# Altium schematic symbol library BSPD_library.SchLib: 4 symbols
Pins are listed as number, name and electrical type; pins without a type are passive.

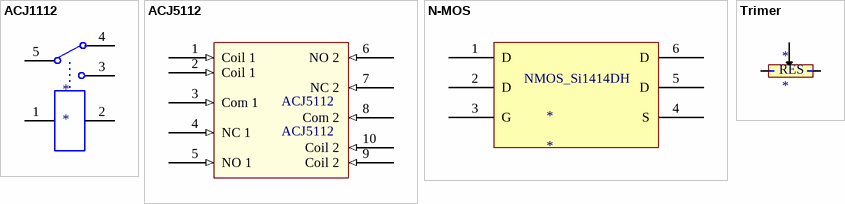
[diagram p0: symbols ACJ1112 to Trimer]

## ACJ1112
designator *
pins: 1 A1, 2 A2, 3, 4, 5

## ACJ5112
designator ACJ5112
footprint Relay ACJ5112 Panasonic-2 (ACJ panasonic)
pins: 1 Coil 1 (in), 2 Coil 1 (in), 3 Com 1 (in), 4 NC 1 (in), 5 NO 1 (in), 6 NO 2 (in), 7 NC 2 (in), 8 Com 2 (in), 9 Coil 2 (in), 10 Coil 2 (in)

## N-MOS
designator *
footprint NMOS_SC70_Si1414DH
pins: 1 D, 2 D, 3 G, 4 S, 5 D, 6 D
text: NMOS_Si1414DH

## Trimer
designator *
footprint Trimer
pins: 1, 2, 3
text: RES